# EAGLE library part MICROZED_TOP (library microzed_top)
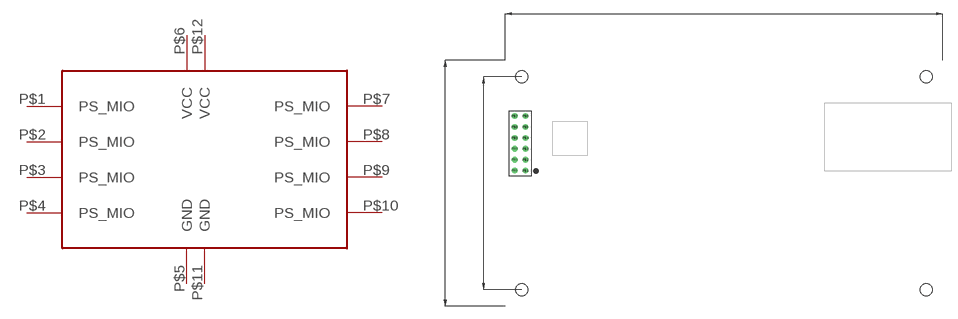
[diagram p0: symbol with the pads of MICROZED_TOP; footprint MICROZED_TOP]

Designator prefix -

## MICROZED_TOP  [MICROZED_TOP]
P$1  PS_MIO
P$2  PS_MIO
P$3  PS_MIO
P$4  PS_MIO
P$5  GND  pwr
P$6  VCC  pwr
P$7  PS_MIO
P$8  PS_MIO
P$9  PS_MIO
P$10  PS_MIO
P$11  GND  pwr
P$12  VCC  pwr

## Footprint MICROZED_TOP (pad centres in mm)
drill 0.8: P$1 -46.101,2.925; P$2 -46.101,5.465; P$3 -46.101,8.005; P$4 -46.101,10.545; P$5 -46.101,13.085; P$6 -46.101,15.625; P$7 -48.641,15.625; P$8 -48.641,13.085; P$9 -48.641,10.545; P$10 -48.641,8.005; P$11 -48.641,5.465; P$12 -48.641,2.925
hole 2.8 at -46.99,24.765
hole 2.8 at -46.99,-24.765
hole 2.8 at 46.99,24.765
hole 2.8 at 46.99,-24.765